# Altium footprint library TYPE_C_D_231__KLS1_5463.PcbLib: 1 footprints
Each footprint in its own frame and in the unit in brackets; x right, y up, seen from the top. Pads: shape width x height; smd on the part's side, far side on the other; paste and mask are expansions set on the pad; w line width, h text height; cw(c..) or ccw(c..) is an arc to the next point about the centre after c.
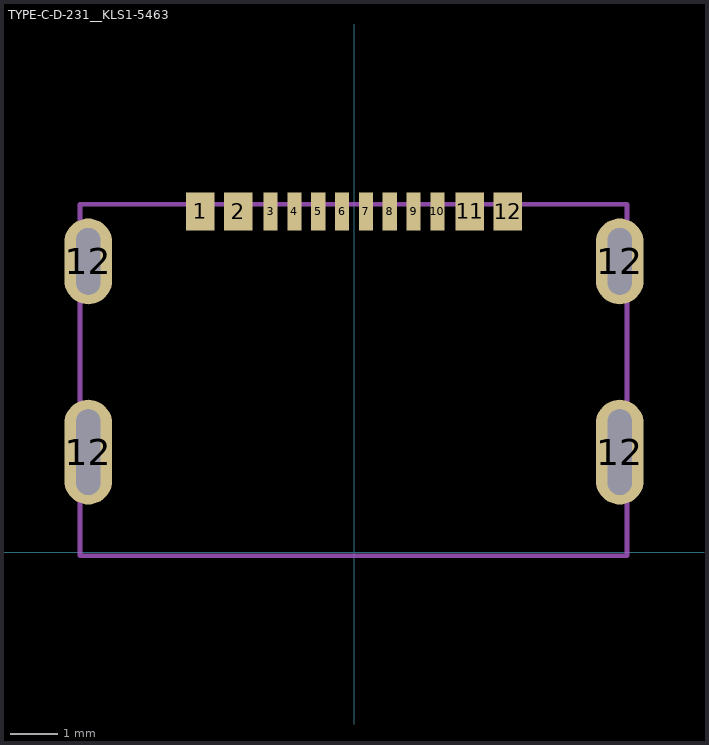
[diagram p0: the footprint, top view; thin cyan lines are the x and y axes]

## TYPE-C-D-231__KLS1-5463 [mm]
pads (16):
  rect 0.6x0.8 smd mask+0.05: 1(-3.225,7.15) 2(-2.425,7.15) 11(2.425,7.15) 12(3.225,7.15)
  rect 0.3x0.8 smd mask+0.05: 3(-1.75,7.15) 4(-1.25,7.15) 5(-0.75,7.15) 6(-0.25,7.15) 7(0.25,7.15) 8(0.75,7.15) 9(1.25,7.15) 10(1.75,7.15)
  oval 1x2.2 hole 0.5 slot 1.8 at 90 deg: 12(-5.575,2.1) 12(5.575,2.1)
  oval 1x1.8 hole 0.5 slot 1.4 at 90 deg: 12(-5.575,6.1) 12(5.575,6.1)
Top Assembly:
  lines w0.1: -5.75,-0.075 5.725,-0.075 5.725,7.3 -5.75,7.3 -5.75,-0.075
  text "'.Designator'" at -1,-0.3 h0.7
3D body "xb-u262-161n-4bc20865.stp": height 2.43, standoff -0.73, extent -5.68,0 5.68,7.2